# Altium footprint library PASSIVE_THD.PCBLIB: 248 footprints (part 14 of 16)
Each footprint in its own frame and in the unit in brackets; x right, y up, seen from the top. Pads: shape width x height; smd on the part's side, far side on the other; paste and mask are expansions set on the pad; w line width, h text height; cw(c..) or ccw(c..) is an arc to the next point about the centre after c.
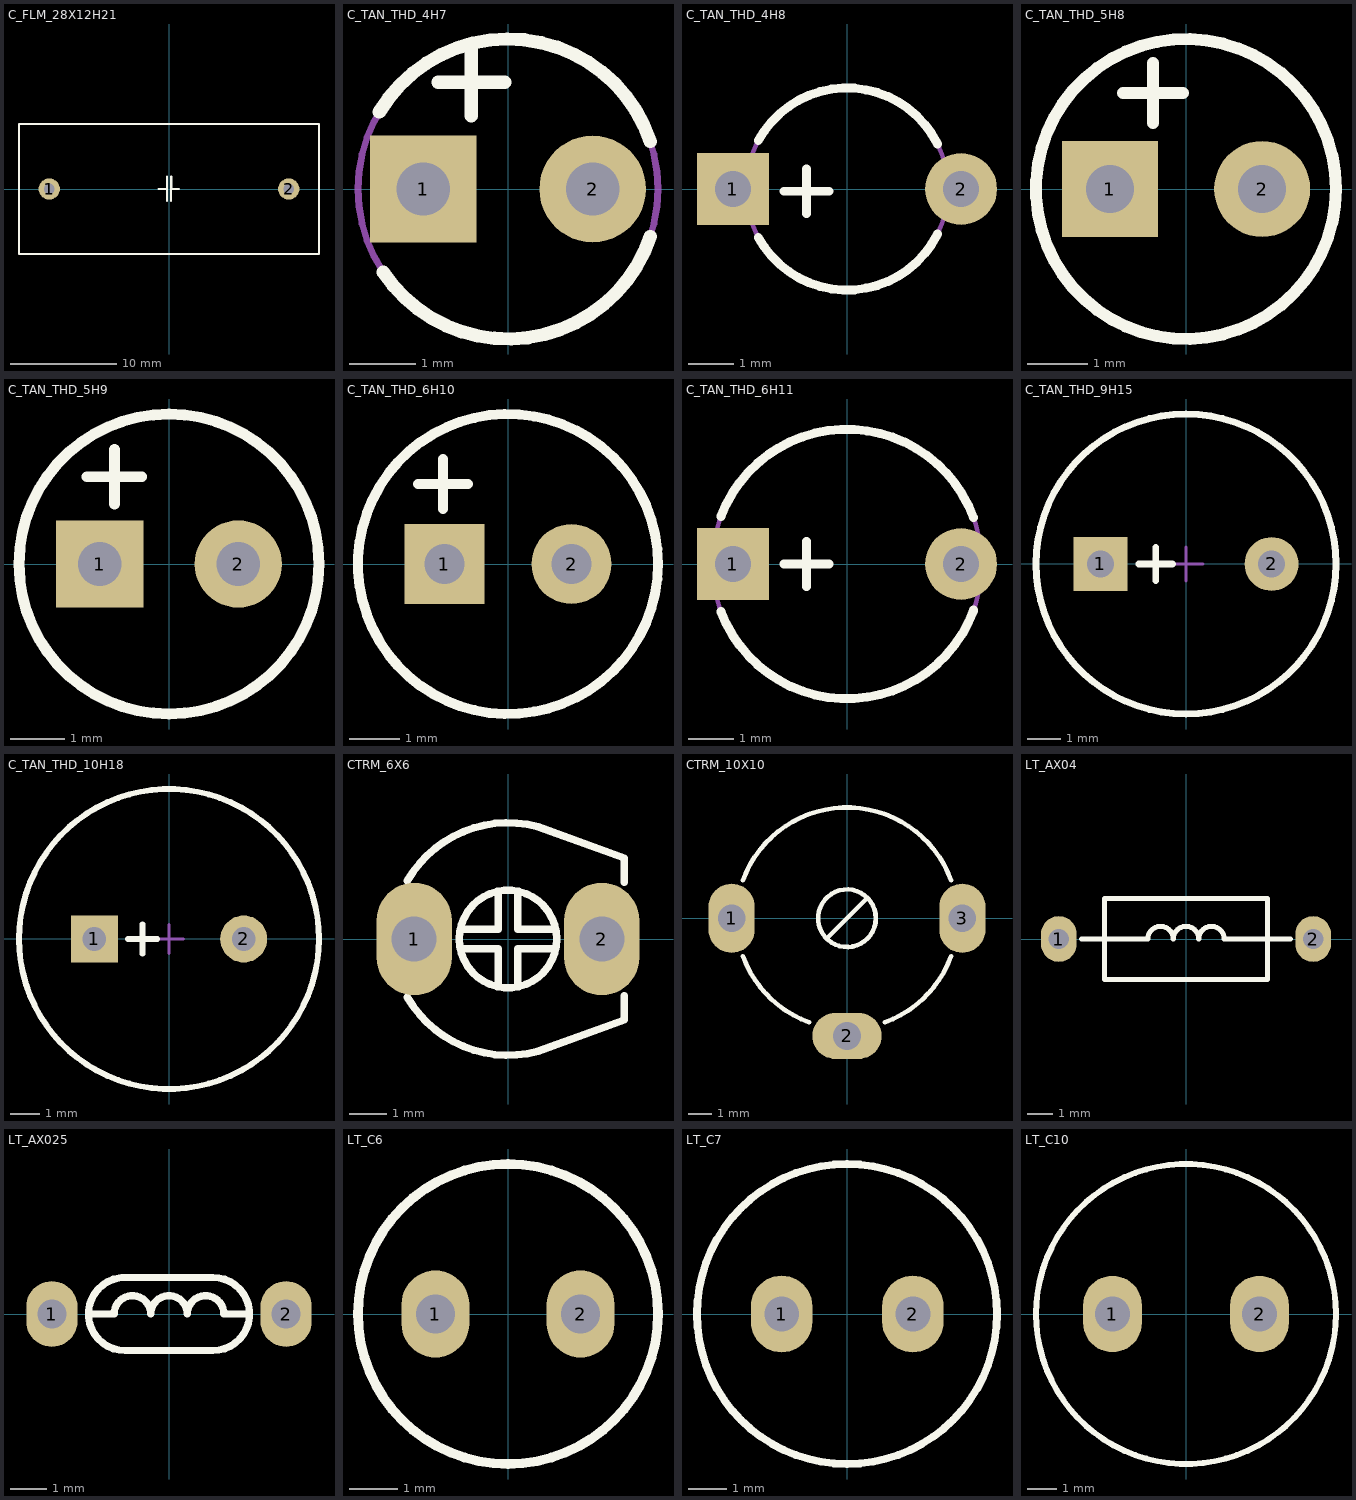
[diagram p13: the footprints below, top view; thin cyan lines are the x and y axes]

## C_FLM_28X12H21 [mm] "Capacitor, THT, Metallized Polyester Film with 28x12x21mm LxTxH"
height 7
pads (2):
  round 2 hole 1: 1(-11.25,0) 2(11.25,0)
TopOverlay:
  lines w0.2: -1,0 -0.2,0 ; -0.2,-1.119 -0.2,1.164 ; 0.2,-1.119 0.212,1.151 ; 0.2,0 0.95,0 ; -14.097,-6.096 -14.097,6.096 14.097,6.096 14.097,-6.096 -14.097,-6.096
3D body "FILM_RED_P2250L2800W1200H2400PD80.step": height 24, standoff -6.2, extent -14,-6 14,6

## C_TAN_THD_4H7 [mm] "Capacitor, Polarized Radial Bead, Pin spacing 2.54mm - Body Diameter 4.5mm X Body Height 7.1mm"
height 4.5
pads (2):
  rect 1.6x1.6 hole 0.8: 1(-1.27,0)
  round 1.6 hole 0.8: 2(1.27,0)
TopOverlay:
  lines w0.2: -1.931,1.154 cw(c0,0) 2.135,0.712 ; -1.872,-1.248 ccw(c0,0) 2.135,-0.712 ; -1.05,1.6 -0.05,1.6 ; -0.55,1.1 -0.55,2.1
Mechanical14:
  circle w0.1: c0,0 r2.25
  lines w0.1: -1.05,1.6 -0.05,1.6 ; -0.55,1.1 -0.55,2.1
3D body "CAPPRB254-450X710.stp": height 7.08, standoff -3.6, extent -2.246,-2.246 2.246,2.246

## C_TAN_THD_4H8 [mm] "Capacitor, Polarized Radial Bead, Pin spacing 5.08mm - Body Diameter 4.5mm X Body Height 8.5mm"
height 8.5
pads (2):
  rect 1.6x1.6 hole 0.8: 1(-2.54,0)
  round 1.6 hole 0.8: 2(2.54,0)
TopOverlay:
  lines w0.2: -1.976,-1.076 ccw(c0,0) 2.012,-1.006 ; -1.976,1.076 cw(c0,0) 2.012,1.006 ; -1.4,-0.05 -0.4,-0.05 ; -0.9,-0.55 -0.9,0.45
Mechanical14:
  circle w0.1: c0,0 r2.25
  lines w0.1: -1.4,-0.05 -0.4,-0.05 ; -0.9,-0.55 -0.9,0.45
3D body "CAPPRB508-450X850.stp": height 8.97, standoff -2.91, extent -2.79,-2.246 2.79,2.246

## C_TAN_THD_5H8 [mm] "Capacitor, Polarized Radial Bead, Pin spacing 2.54mm - Body Diameter 5.5mm X Body Height 8.4mm"
height 8.4
pads (2):
  rect 1.6x1.6 hole 0.8: 1(-1.27,0)
  round 1.6 hole 0.8: 2(1.27,0)
TopOverlay:
  circle w0.2: c0,0 r2.5
  lines w0.2: -1.05,1.6 -0.05,1.6 ; -0.55,1.1 -0.55,2.1
Mechanical14:
  circle w0.1: c0,0 r2.5
  lines w0.1: -1.05,1.6 -0.05,1.6 ; -0.55,1.1 -0.55,2.1
3D body "CAPPRB254-500X840.stp": height 8.4, standoff -3.6, extent -2.5,-2.5 2.5,2.5

## C_TAN_THD_5H9 [mm] "Capacitor, Polarized Radial Bead, Pin spacing 2.54mm - Body Diameter 5.5mm X Body Height 9mm"
height 9
pads (2):
  rect 1.6x1.6 hole 0.8: 1(-1.27,0)
  round 1.6 hole 0.8: 2(1.27,0)
TopOverlay:
  circle w0.2: c0,0 r2.75
  lines w0.2: -1.5,1.6 -0.5,1.6 ; -1,1.1 -1,2.1
Mechanical14:
  circle w0.1: c0,0 r2.75
  lines w0.1: -1.5,1.6 -0.5,1.6 ; -1,1.1 -1,2.1
3D body "CAPPRB254-550X900.stp": height 9, standoff -3.6, extent -2.74,-2.74 2.76,2.72

## C_TAN_THD_6H10 [mm] "Capacitor, Polarized Radial Bead, Pin spacing 2.54mm - Body Diameter 6.0mm X Body Height 10mm"
height 10
pads (2):
  rect 1.6x1.6 hole 0.8: 1(-1.27,0)
  round 1.6 hole 0.8: 2(1.27,0)
TopOverlay:
  circle w0.2: c0,0 r3
  lines w0.2: -1.8,1.6 -0.8,1.6 ; -1.3,1.1 -1.3,2.1
Mechanical14:
  circle w0.1: c0,0 r3
  lines w0.1: -1.8,1.6 -0.8,1.6 ; -1.3,1.1 -1.3,2.1
3D body "CAPPRB254-600X1000.stp": height 10, standoff -3.6, extent -3,-3 3,3

## C_TAN_THD_6H11 [mm] "Capacitor, Polarized Radial Bead, Pin spacing 5.08mm - Body Diameter 6mm X Body Height 11.5mm"
height 11.5
pads (2):
  rect 1.6x1.6 hole 0.8: 1(-2.54,0)
  round 1.6 hole 0.8: 2(2.54,0)
TopOverlay:
  lines w0.2: -2.809,-1.053 ccw(c0,0) 2.819,-1.026 ; -2.809,1.053 cw(c0,0) 2.817,1.031 ; -1.4,0 -0.4,0 ; -0.9,-0.5 -0.9,0.5
Mechanical14:
  circle w0.1: c0,0 r3
  lines w0.1: -1.4,0 -0.4,0 ; -0.9,-0.5 -0.9,0.5
3D body "CAPPRB508-600X1150.stp": height 11.79, standoff -2.91, extent -3,-2.984 3,2.984

## C_TAN_THD_9H15 [mm] "Capacitor, Polarized Radial Bead, Pin spacing 5.08mm - Body Diameter 8.9mm X Body Height 15.5mm"
height 15.5
pads (2):
  rect 1.6x1.6 hole 0.8: 1(-2.54,0)
  round 1.6 hole 0.8: 2(2.54,0)
TopOverlay:
  circle w0.2: c0,0 r4.45
  lines w0.2: -1.4,0 -0.4,0 ; -0.9,-0.5 -0.9,0.5
Mechanical8:
  lines w0.1: -3.04,0 -2.54,0 ; -2.54,-0.5 -2.54,0 ; -2.54,0.5 -2.54,0 ; -2.04,0 -2.54,0 ; -0.5,0 0,0 ; 0,-0.5 0,0 ; 0,0.5 0,0 ; 0.5,0 0,0 ; 2.04,0 2.54,0 ; 2.54,-0.5 2.54,0 ; 2.54,0.5 2.54,0 ; 3.04,0 2.54,0
Mechanical14:
  circle w0.1: c0,0 r4.45
  lines w0.1: -1.4,0 -0.4,0 ; -0.9,-0.5 -0.9,0.5
3D body "CAPPRB508-890X1550.stp": height 15.5, standoff -2.91, extent -4.45,-4.45 4.45,4.45

## C_TAN_THD_10H18 [mm] "Capacitor, Polarized Radial Bead, Pin spacing 5.08mm - Body Diameter 10.2mm X Body Height 18.6mm"
height 18.6
pads (2):
  rect 1.6x1.6 hole 0.8: 1(-2.54,0)
  round 1.6 hole 0.8: 2(2.54,0)
TopOverlay:
  circle w0.2: c0,0 r5.1
  lines w0.2: -1.4,0 -0.4,0 ; -0.9,-0.5 -0.9,0.5
Mechanical8:
  lines w0.1: -3.04,0 -2.54,0 ; -2.54,-0.5 -2.54,0 ; -2.54,0.5 -2.54,0 ; -2.04,0 -2.54,0 ; -0.5,0 0,0 ; 0,-0.5 0,0 ; 0,0.5 0,0 ; 0.5,0 0,0 ; 2.04,0 2.54,0 ; 2.54,-0.5 2.54,0 ; 2.54,0.5 2.54,0 ; 3.04,0 2.54,0
Mechanical14:
  circle w0.1: c0,0 r5.1
  lines w0.1: -1.4,0 -0.4,0 ; -0.9,-0.5 -0.9,0.5
3D body "CAPPRB508-1020X1860.stp": height 18.6, standoff -2.91, extent -5.1,-5.1 5.1,5.1

## CTRM_6X6 [mm] "CAP, TRIMMER, Murata TZ03"
pads (2):
  oval 2x3 hole 1.2: 1(-2.5,0) 2(2.5,0)
TopOverlay:
  circle w0.2: c0,0 r1.3
  lines w0.2: -2.685,-1.55 ccw(c0,0) 0.802,-2.994 3.1,-2.158 3.1,-1.519 ; -2.685,1.55 cw(c0,0) 0.802,2.994 3.1,2.158 3.1,1.519 ; -1.27,-0.254 -0.254,-0.254 -0.254,-1.27 ; -1.27,0.254 -0.254,0.254 -0.254,1.27 ; 0.254,-1.27 0.254,-0.254 1.27,-0.254 ; 0.254,1.27 0.254,0.254 1.27,0.254
3D body "User Library-Murata TZ03.step": height 4.8, standoff -3.3, extent -3,-3 3,3

## CTRM_10X10 [mm] "CAP, TRIMMER, 10X10mm 3P"
pads (3):
  oval 2x3 hole 1.2: 1(-5,0) 3(5,0)
  oval 3x2 hole 1.2: 2(0,-5.1)
TopOverlay:
  circle w0.2: c0,0 r1.25
  lines w0.2: -4.511,-1.642 ccw(c0,0) -1.642,-4.511 ; -4.511,1.642 cw(c0,0) 4.511,1.642 ; -0.889,-0.889 0.889,0.889 ; 1.642,-4.511 ccw(c0,0) 4.511,-1.642
3D body "User Library-TRIMMER,CAP.step": height 11.26, standoff -2.48, extent -5.029,-5.943 5.029,4.699

## LT_AX04 [mm] "INDUCTOR, Axial, 9.8mm,"
pads (2):
  oval 1.4x1.8 hole 0.8: 1(-5,0) 2(5,0)
TopOverlay:
  lines w0.2: -4.1,0 -1.5,0 cw(c-1,0) -0.5,0 cw(c0,0) 0.5,0 cw(c1,0) 1.5,0 4.1,0 ; -3.2,-1.6 3.2,-1.6 3.2,1.6 -3.2,1.6 -3.2,-1.6
3D body "RES 0.25W.STEP": height 2.69, standoff -2.11, extent -5.15,-1.568 5.15,1.568

## LT_AX025 [mm] "INDUCTOR, Axial, 6.4mm,"
pads (2):
  oval 1.4x1.8 hole 0.8 mask+0.1: 1(-3.2,0) 2(3.2,0)
TopOverlay:
  lines w0.2: -2.2,0 -1.5,0 cw(c-1,0) -0.5,0 cw(c0,0) 0.5,0 cw(c1,0) 1.5,0 2.2,0 ; -1.3,1 1.2,1 cw(c1.2,0) 1.2,-1 -1.2,-1 cw(c-1.2,0) -1.2,1
3D body "Inductor.STEP": height 1.92, standoff -2, extent -3.429,-0.92 3.429,0.92

## LT_C6 [mm] "INDUCTOR, Cylinder, 6mm,"
pads (2):
  oval 1.4x1.8 hole 0.8 mask+0.1: 1(-1.5,0) 2(1.5,0)
TopOverlay:
  circle w0.2: c0,0 r3.1
3D body "User Library-L6-8-3.STEP": height 8, standoff -3.7, extent -3,-3 3,3

## LT_C7 [mm] "INDUCTOR, Cylinder, 7.5mm,"
pads (2):
  oval 1.6x2 hole 0.9 mask+0.1: 1(-1.7,0) 2(1.714,0)
TopOverlay:
  circle w0.2: c0,0 r3.9
3D body "Coilcraft-DR0608-DEFAULT.STEP": height 10.7, standoff -3.8, extent -3.75,-3.75 3.75,3.75

## LT_C10 [mm] "INDUCTOR, Cylinder, 10mm,"
pads (2):
  oval 2x2.6 hole 1.2: 1(-2.5,0) 2(2.5,0)
TopOverlay:
  circle w0.2: c0,0 r5.1
3D body "User Library-Inductor 10x12 (200 mils).STEP": height 12.13, standoff -3.87, extent -5,-5 5,5